# EAGLE library part POLOLU-REG (library External)
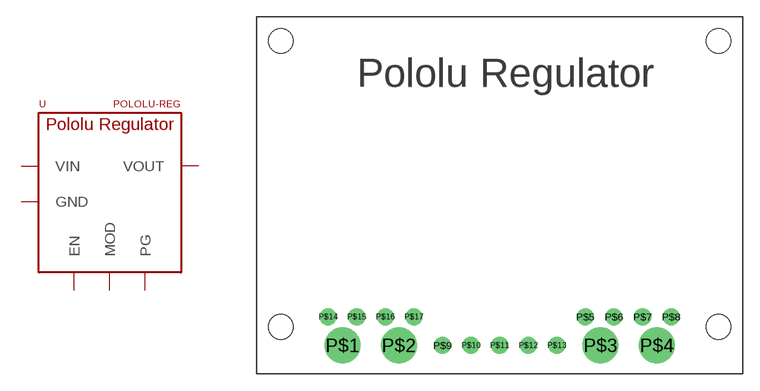
[diagram p1: symbol with the pads of POLOLU-REG; footprint POLOLU-REG]

Designator prefix -

## POLOLU-REG  [POLOLU-REG]
P$1  VIN  pwr
P$2  GND  pwr
P$3  GND  pwr
P$4  VOUT  pwr
P$5  GND  pwr
P$6  GND  pwr
P$7  VOUT  pwr
P$8  VOUT  pwr
P$9  PG
P$10  MOD
P$11  GND  pwr
P$12  GND  pwr
P$13  EN
P$14  VIN  pwr
P$15  VIN  pwr
P$16  GND  pwr
P$17  GND  pwr

## Footprint POLOLU-REG (pad centres in mm)
drill 2.184: P$1 7.62,2.54; P$2 12.624,2.54; P$3 30.556,2.54; P$4 35.56,2.54
drill 1.016: P$5 29.21,5.08; P$6 31.75,5.08; P$7 34.29,5.08; P$8 36.83,5.08; P$9 16.51,2.54; P$10 19.05,2.54; P$11 21.59,2.54; P$12 24.13,2.54; P$13 26.67,2.54; P$14 6.35,5.08; P$15 8.89,5.08; P$16 11.43,5.08; P$17 13.97,5.08
hole 2.184 at 2.159,4.191
hole 2.184 at 41.021,4.191
hole 2.184 at 41.021,29.591
hole 2.184 at 2.159,29.591